# EAGLE library part G2RL-2A (library Relay)
CONTACT TYPE : DPST COIL RATING : 5 to 48 VDC Datasheet <https://omronfs.omron.com/en_US/ecb/products/pdf/en-g2rl.pdf>
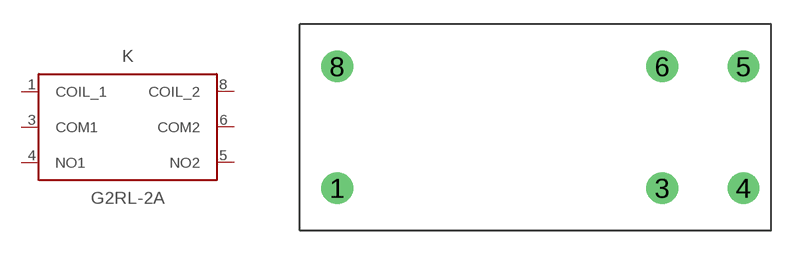
[diagram p2: symbol with the pads of G2RL-2A; footprint G2RL-2A]

Designator prefix K

## G2RL-2A (CATEGORY: RELAY; MANUFACTURER: OMRON; OPERATING_TEMP: 40°C to 85°C; PART_STATUS: ACTIVE; ROHS_COMPLIANCE: ROHS COMPLIANT; SERIES: G2RL; SUB-CATEGORY: Power Relay; TYPE: DPST; VALUE: G2RL), G2RL-2A-HA (CATEGORY: RELAY; MANUFACTURER: OMRON; OPERATING_TEMP: 40°C to 85°C; PART_STATUS: ACTIVE; ROHS_COMPLIANCE: ROHS COMPLIANT; SERIES: G2RL; SUB-CATEGORY: Power Relay; TYPE: DPST; VALUE: G2RL), G2RL-2A4 (CATEGORY: RELAY; MANUFACTURER: OMRON; OPERATING_TEMP: 40°C to 85°C; PART_STATUS: ACTIVE; ROHS_COMPLIANCE: ROHS COMPLIANT; SERIES: G2RL; SUB-CATEGORY: Power Relay; TYPE: DPST; VALUE: G2RL)  [G2RL-2A]
1  COIL_1
3  COM1
4  NO1
5  NO2
6  COM2
8  COIL_2

## Footprint G2RL-2A (pad centres in mm)
drill 1.3: 1 0,0; 3 20,0; 4 25,0; 5 25,7.5; 6 20,7.5; 8 0,7.5